# EAGLE library part LPC9107 (library philips-6)
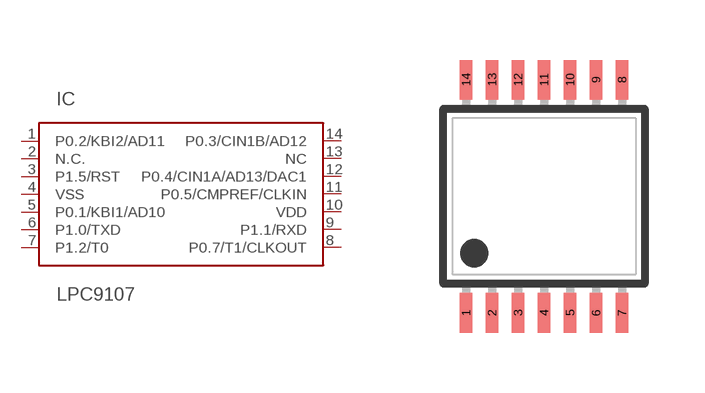
[diagram p15: symbol with the pads of TSSOP14; footprint TSSOP14]

Designator prefix IC

## LPC9107  [TSSOP14]
1  P0.2/KBI2/AD11
2  N.C.  nc
3  P1.5/RST
4  VSS
5  P0.1/KBI1/AD10
6  P1.0/TXD
7  P1.2/T0
8  P0.7/T1/CLKOUT
9  P1.1/RXD
10  VDD
11  P0.5/CMPREF/CLKIN
12  P0.4/CIN1A/AD13/DAC1
13  NC  nc
14  P0.3/CIN1B/AD12

## Footprint TSSOP14 (pad centres in mm)
Thin Shrink Small Outline Plastic 14
smd 0.305 x 0.991: 1 -1.95,-2.918; 2 -1.3,-2.918; 3 -0.65,-2.918; 4 0,-2.918; 5 0.65,-2.918; 6 1.3,-2.918; 7 1.95,-2.918; 8 1.95,2.918; 9 1.3,2.918; 10 0.65,2.918; 11 0,2.918; 12 -0.65,2.918; 13 -1.3,2.918; 14 -1.95,2.918